# Altium schematic symbol library MOSFET,P Ch,20V,830mA.Schlib: 1 symbol
Pins are listed as number, name and electrical type; pins without a type are passive.

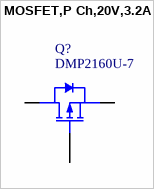
[diagram p0: symbol MOSFET,P Ch,20V,3.2A]

## MOSFET,P Ch,20V,3.2A
designator Q?, comment DMP2160U-7
P-Channel 20 V 3.2A (Ta) 1.4W (Ta) Surface Mount SOT-23-3
pins: 1 G, 2 S, 3 D